# EAGLE library part PIC18F13K22 (library MCE_Microchip)
PIC18F13K22
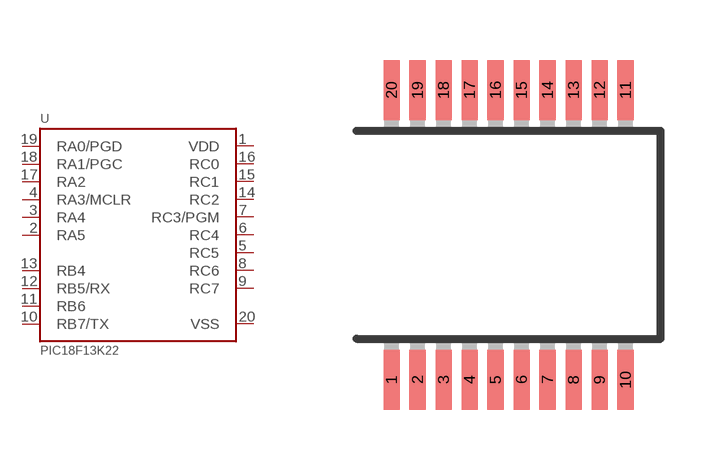
[diagram p5: symbol with the pads of SSOP20; footprint SSOP20]

Designator prefix U

## PIC18F13K22  [SSOP20]
1  VDD
2  RA5
3  RA4
4  RA3/MCLR
5  RC5
6  RC4
7  RC3/PGM
8  RC6
9  RC7
10  RB7/TX
11  RB6
12  RB5/RX
13  RB4
14  RC2
15  RC1
16  RC0
17  RA2
18  RA1/PGC
19  RA0/PGD
20  VSS

## Footprint SSOP20 (pad centres in mm)
Shrink Small Outline Package package type SS
smd 0.4 x 1.5: 1 -2.925,-3.625; 2 -2.275,-3.625; 3 -1.625,-3.625; 4 -0.975,-3.625; 5 -0.325,-3.625; 6 0.325,-3.625; 7 0.975,-3.625; 8 1.625,-3.625; 9 2.275,-3.625; 10 2.925,-3.625; 11 2.925,3.625; 12 2.275,3.625; 13 1.625,3.625; 14 0.975,3.625; 15 0.325,3.625; 16 -0.325,3.625; 17 -0.975,3.625; 18 -1.625,3.625; 19 -2.275,3.625; 20 -2.925,3.625